# Altium schematic symbol library 556.SchLib: 1 symbol
Pins are listed as number, name and electrical type; pins without a type are passive.

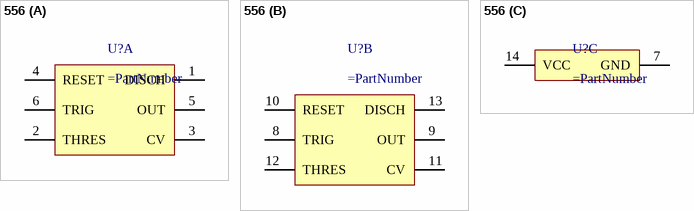
[diagram p0: symbol 556]

## 556
designator U?
part A pins: 1 DISCH, 2 THRES, 3 CV, 4 RESET, 5 OUT, 6 TRIG
part B pins: 8 TRIG, 9 OUT, 10 RESET, 11 CV, 12 THRES, 13 DISCH
part C pins: 7 GND, 14 VCC